# Altium footprint library PcbLib1.PcbLib: 60 footprints (part 3 of 4)
Each footprint in its own frame and in the unit in brackets; x right, y up, seen from the top. Pads: shape width x height; smd on the part's side, far side on the other; paste and mask are expansions set on the pad; w line width, h text height; cw(c..) or ccw(c..) is an arc to the next point about the centre after c.
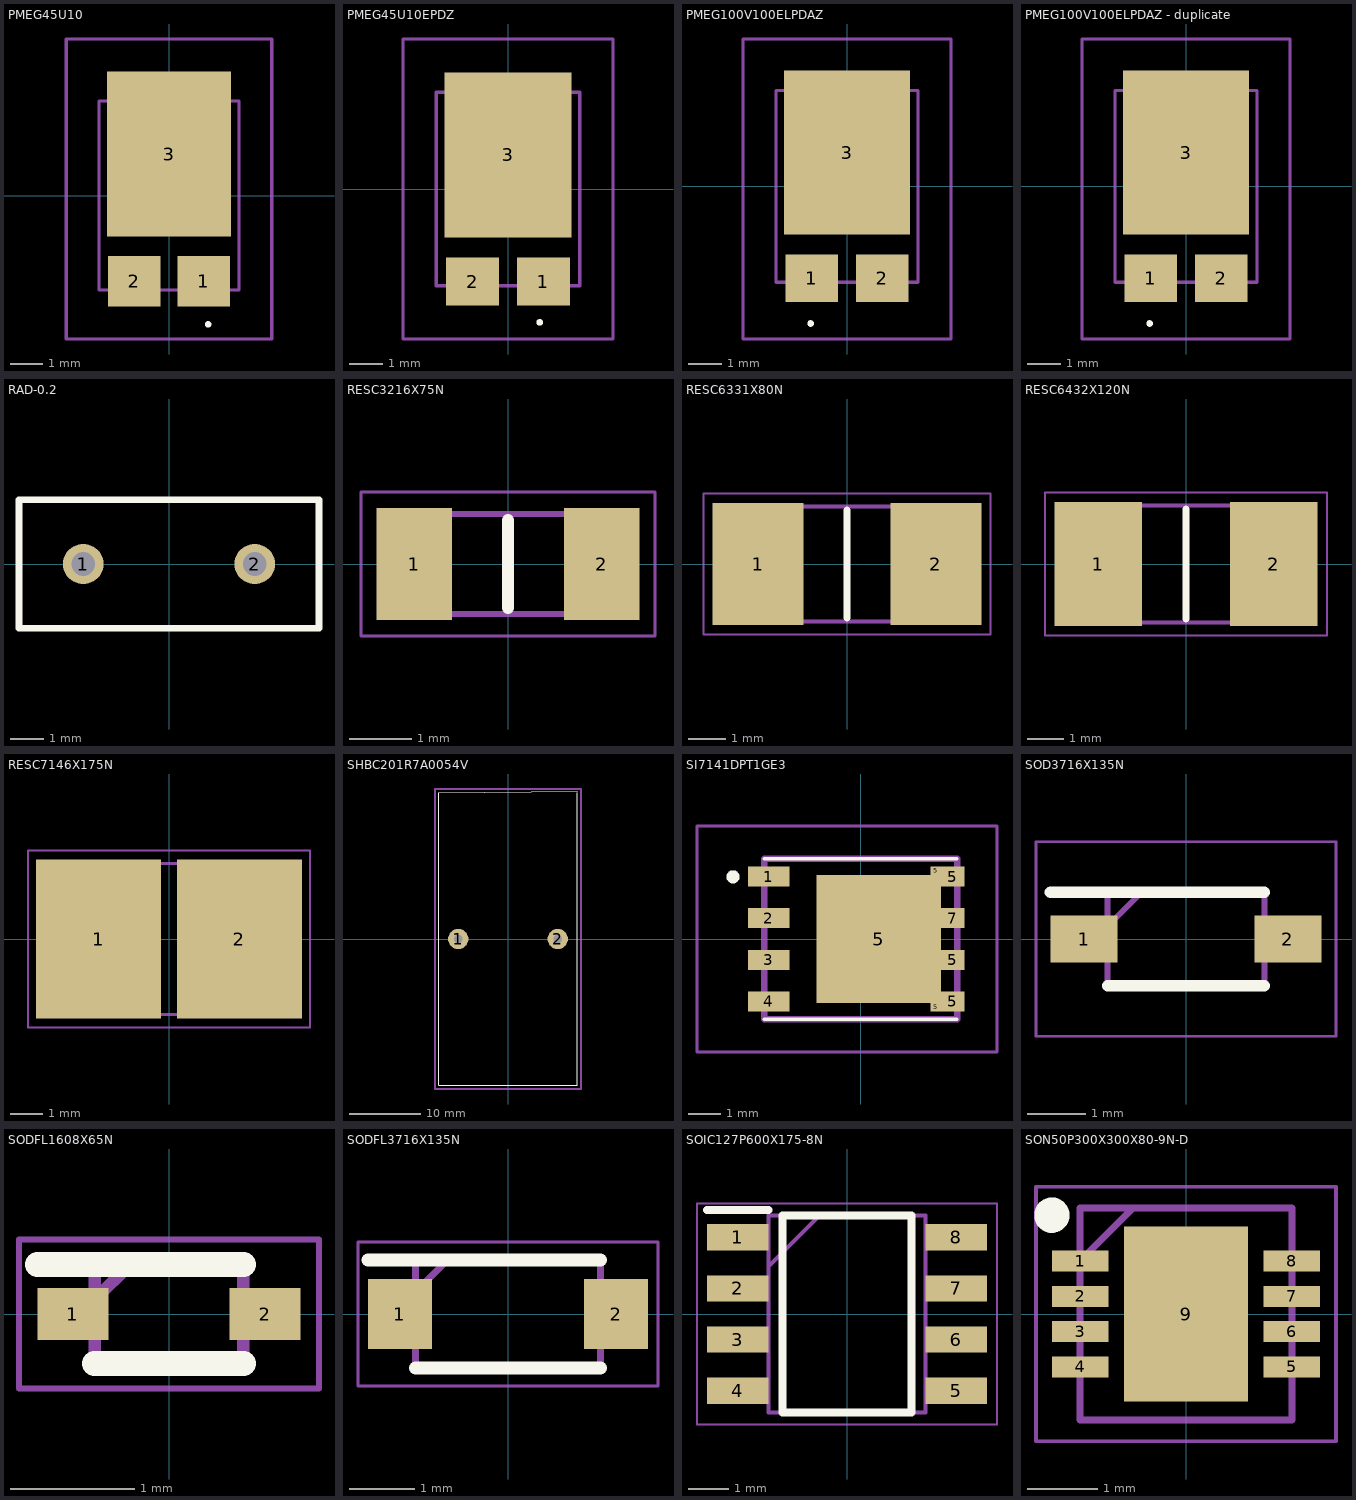
[diagram p2: the footprints below, top view; thin cyan lines are the x and y axes]

## PMEG45U10 [mm]
pads (3):
  rect 1.6x1.54 smd: 1(1.065,-2.63) 2(-1.065,-2.63)
  rect 3.8x5.06 smd: 3(0,1.27)
Top Overlay:
  lines w0.1: 1.2,-4 cw(c1.2,-3.95) 1.2,-3.9 cw(c1.2,-3.95) 1.2,-4
Mechanical 13:
  lines w0.1: -2.15,-2.9 -2.15,2.9 2.15,2.9 2.15,-2.9 -2.15,-2.9
Mechanical 15:
  lines w0.1: -3.15,-4.4 -3.15,4.8 3.15,4.8 3.15,-4.4 -3.15,-4.4
3D body "PMEG100T030ELPE.stp": height 1.09, standoff 0, extent -2.15,-2.9 2.15,2.9

## PMEG45U10EPDZ [mm]
pads (3):
  rect 1.6x1.44 smd: 1(1.065,-2.78) 2(-1.065,-2.78)
  rect 3.8x4.96 smd: 3(0,1.02)
Top Overlay:
  lines w0.1: 0.9,-4 cw(c0.95,-4) 1,-4 cw(c0.95,-4) 0.9,-4
Mechanical 13:
  lines w0.1: -2.15,-2.9 2.15,-2.9 2.15,2.9 -2.15,2.9 -2.15,-2.9
Mechanical 15:
  lines w0.1: -3.15,-4.5 3.15,-4.5 3.15,4.5 -3.15,4.5 -3.15,-4.5
3D body "PMEG45U10EPDZ.stp": height 0.92, standoff 0, extent -2.15,-3.356 2.15,3.12

## PMEG100V100ELPDAZ [mm]
pads (3):
  rect 1.6x1.44 smd: 1(-1.065,-2.78) 2(1.065,-2.78)
  rect 3.8x4.96 smd: 3(0,1.02)
Top Overlay:
  lines w0.1: -1.1,-4.2 cw(c-1.1,-4.15) -1.1,-4.1 cw(c-1.1,-4.15) -1.1,-4.2
Mechanical 13:
  lines w0.1: -2.15,-2.9 2.15,-2.9 2.15,2.9 -2.15,2.9 -2.15,-2.9
Mechanical 15:
  lines w0.1: -3.15,-4.62 3.15,-4.62 3.15,4.46 -3.15,4.46 -3.15,-4.62
3D body "PMEG100V100ELPDAZ.stp": height 0.92, standoff 0, extent -2.15,-3.356 2.15,3.12

## PMEG100V100ELPDAZ - duplicate [mm]
pads (3):
  rect 1.6x1.44 smd: 1(-1.065,-2.78) 2(1.065,-2.78)
  rect 3.8x4.96 smd: 3(0,1.02)
Top Overlay:
  lines w0.1: -1.1,-4.2 cw(c-1.1,-4.15) -1.1,-4.1 cw(c-1.1,-4.15) -1.1,-4.2
Mechanical 13:
  lines w0.1: -2.15,-2.9 2.15,-2.9 2.15,2.9 -2.15,2.9 -2.15,-2.9
Mechanical 15:
  lines w0.1: -3.15,-4.62 3.15,-4.62 3.15,4.46 -3.15,4.46 -3.15,-4.62
3D body "PMEG100V100ELPDAZ.stp": height 0.92, standoff 0, extent -2.15,-3.356 2.15,3.12

## RAD-0.2 [mm] "Radial Cap, Thru-Hole; 2 Leads; 0.2 in Pin Spacing"
pads (2):
  round 1.2 hole 0.7: 1(-2.54,0) 2(2.54,0)
Top Overlay:
  lines w0.2: -4.445,-1.905 -4.445,1.905 4.445,1.905 4.445,-1.905 -4.445,-1.905

## RESC3216X75N [mm]
pads (2):
  rect 1.2x1.8 smd: 1(-1.5,0) 2(1.5,0)
Top Overlay:
  lines w0.2: 0,-0.7 0,0.7
Mechanical 13:
  lines w0.1: -1.6,-0.8 -1.6,0.8 1.6,0.8 1.6,-0.8 -1.6,-0.8
Mechanical 15:
  lines w0.05: -2.35,-1.15 -2.35,1.15 2.35,1.15 2.35,-1.15 -2.35,-1.15
3D body "CR1206-F_-9R10ELF.stp": height 0.75, standoff 0, extent -1.6,-0.8 1.6,0.8

## RESC6331X80N [mm]
pads (2):
  rect 2.45x3.3 smd: 1(-2.4,0) 2(2.4,0)
Top Overlay:
  lines w0.2: 0,-1.45 0,1.45
Mechanical 13:
  lines w0.1: -3.15,-1.55 -3.15,1.55 3.15,1.55 3.15,-1.55 -3.15,-1.55
Mechanical 15:
  lines w0.05: -3.875,-1.9 -3.875,1.9 3.875,1.9 3.875,-1.9 -3.875,-1.9
3D body "CRM2512-FX-R100ELF.stp": height 0.8, standoff 0, extent -3.15,-1.55 3.15,1.55

## RESC6432X120N [mm]
pads (2):
  rect 2.4x3.4 smd: 1(-2.4,0) 2(2.4,0)
Top Overlay:
  lines w0.2: 0,-1.5 0,1.5
Mechanical 13:
  lines w0.1: -3.175,-1.6 3.175,-1.6 3.175,1.6 -3.175,1.6 -3.175,-1.6
Mechanical 15:
  lines w0.05: -3.85,-1.95 3.85,-1.95 3.85,1.95 -3.85,1.95 -3.85,-1.95
3D body "35221R0JT.stp": height 1.2, standoff 0, extent -3.175,-1.6 3.175,1.6

## RESC7146X175N [mm]
pads (2):
  rect 3.8x4.85 smd: 1(-2.15,0) 2(2.15,0)
Mechanical 13:
  lines w0.1: -3.55,-2.3 3.55,-2.3 3.55,2.3 -3.55,2.3 -3.55,-2.3
Mechanical 15:
  lines w0.05: -4.3,-2.7 4.3,-2.7 4.3,2.7 -4.3,2.7 -4.3,-2.7
3D body "WSHM2818R0500FEB.stp": height 1.5, standoff 0, extent -3.55,-2.3 3.55,2.3

## SHBC201R7A0054V [mm]
pads (2):
  round 2.85 hole 1.2: 1(-7,0) 2(7,0)
Top Overlay:
  lines w0.1: 9.75,20.6 9.75,-20.6 -9.75,-20.6 -9.75,20.6 9.75,20.75
Mechanical 15:
  lines w0.254: -10.25,-21.1 10.25,-21.1 10.25,21.1 -10.25,21.1 -10.25,-21.1
3D body: height 0, standoff 0, extent 7,0 7,0
3D body: height 0, standoff 0, extent -7,0 -7,0
3D body: height 41.2, standoff 0, extent -9.779,-20.637 9.779,20.701

## SI7141DPT1GE3 [mm]
pads (11):
  rect 1.27x0.61 smd: 1(-2.81,1.905) 2(-2.81,0.635) 3(-2.81,-0.635) 4(-2.81,-1.905)
  rect 3.81x3.91 smd: 5(0.55,0)
  rect 0.32x0.255 smd: 5(2.3,-2.083) 5(2.3,2.083)
  rect 0.71x0.61 smd: 5(2.81,-1.905) 5(2.81,-0.635) 5(2.81,1.905) 7(2.81,0.635)
Top Overlay:
  lines w0.1: -2.945,-2.45 2.945,-2.45 ; -2.945,2.45 2.945,2.45
  lines w0.2: -3.9,1.8 cw(c-3.9,1.9) -3.9,2 cw(c-3.9,1.9) -3.9,1.8
Mechanical 13:
  lines w0.2: -2.945,-2.45 2.945,-2.45 2.945,2.45 -2.945,2.45 -2.945,-2.45
Mechanical 15:
  lines w0.1: -5,-3.45 4.165,-3.45 4.165,3.45 -5,3.45 -5,-3.45

## SOD3716X135N [mm]
pads (2):
  rect 1.15x0.8 smd: 1(-1.75,0) 2(1.75,0)
Top Overlay:
  lines w0.2: -2.325,0.8 1.345,0.8 ; -1.345,-0.8 1.345,-0.8
Mechanical 13:
  lines w0.1: -1.345,0.225 -0.77,0.8 ; -1.345,-0.8 1.345,-0.8 1.345,0.8 -1.345,0.8 -1.345,-0.8
Mechanical 15:
  lines w0.05: -2.575,-1.67 2.575,-1.67 2.575,1.67 -2.575,1.67 -2.575,-1.67
3D body "MMSZ5263BT1G.stp": height 1.35, standoff 0, extent -1.855,-0.8 1.855,0.8

## SODFL1608X65N [mm]
pads (2):
  rect 0.57x0.42 smd: 1(-0.775,0) 2(0.775,0)
Top Overlay:
  lines w0.2: -1.06,0.4 0.6,0.4 ; -0.6,-0.4 0.6,-0.4
Mechanical 13:
  lines w0.1: -0.6,0.115 -0.315,0.4 ; -0.6,-0.4 -0.6,0.4 0.6,0.4 0.6,-0.4 -0.6,-0.4
Mechanical 15:
  lines w0.05: -1.21,-0.6 -1.21,0.6 1.21,0.6 1.21,-0.6 -1.21,-0.6
3D body "1N4448HWT-7.stp": height 0.65, standoff 0, extent -0.8,-0.4 0.8,0.4

## SODFL3716X135N [mm]
pads (2):
  rect 0.98x1.07 smd: 1(-1.65,0) 2(1.65,0)
Top Overlay:
  lines w0.2: -2.14,0.825 1.412,0.825 ; -1.412,-0.825 1.412,-0.825
Mechanical 13:
  lines w0.1: -1.412,0.335 -0.922,0.825 ; -1.412,-0.825 1.412,-0.825 1.412,0.825 -1.412,0.825 -1.412,-0.825
Mechanical 15:
  lines w0.05: -2.29,-1.1 2.29,-1.1 2.29,1.1 -2.29,1.1 -2.29,-1.1
3D body "SMF4L60A-Q.stp": height 1.35, standoff 0, extent -1.85,-0.825 1.85,0.825

## SOIC127P600X175-8N [mm]
pads (8):
  rect 1.525x0.65 smd: 1(-2.712,1.905) 2(-2.712,0.635) 3(-2.712,-0.635) 4(-2.712,-1.905) 5(2.712,-1.905) 6(2.712,-0.635) 7(2.712,0.635) 8(2.712,1.905)
Top Overlay:
  lines w0.2: -3.475,2.58 -1.95,2.58 ; -1.6,-2.45 1.6,-2.45 1.6,2.45 -1.6,2.45 -1.6,-2.45
Mechanical 13:
  lines w0.1: -1.95,1.18 -0.68,2.45 ; -1.95,-2.45 1.95,-2.45 1.95,2.45 -1.95,2.45 -1.95,-2.45
Mechanical 15:
  lines w0.05: -3.725,-2.75 3.725,-2.75 3.725,2.75 -3.725,2.75 -3.725,-2.75
3D body "NE555DR.stp": height 1.75, standoff 0, extent -3,-2.45 3,2.45

## SON50P300X300X80-9N-D [mm]
pads (9):
  rect 0.8x0.3 smd: 1(-1.5,0.75) 2(-1.5,0.25) 3(-1.5,-0.25) 4(-1.5,-0.75) 5(1.5,-0.75) 6(1.5,-0.25) 7(1.5,0.25) 8(1.5,0.75)
  rect 1.75x2.48 smd: 9(0,0)
Top Overlay:
  circle w0.25: c-1.9,1.4 r0.125
Mechanical 13:
  lines w0.1: -1.5,0.75 -0.75,1.5 ; -1.5,-1.5 -1.5,1.5 1.5,1.5 1.5,-1.5 -1.5,-1.5
Mechanical 15:
  lines w0.05: -2.125,-1.8 -2.125,1.8 2.125,1.8 2.125,-1.8 -2.125,-1.8
3D body "LTC2944CDD#PBF.stp": height 0.8, standoff 0, extent -1.55,-1.5 1.55,1.5